# EAGLE library part 7-SEG_ (library display-kingbright_fix)
Kingbright 14.2mm (0.56 INCH) SINGLE DIGIT NUMERIC DUISPLAY Source: SA56-11EWA(Ver1189471036.pdf
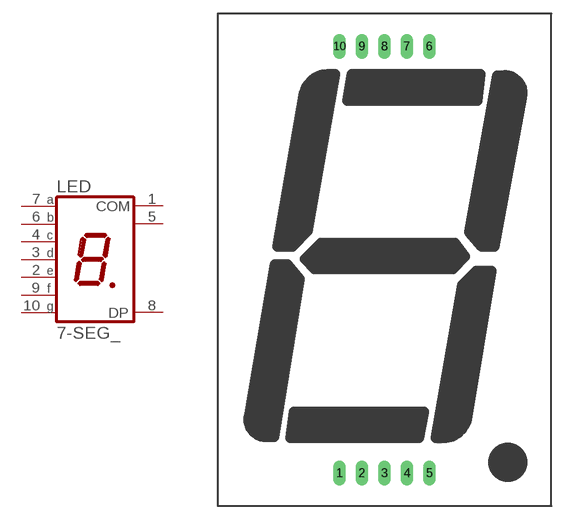
[diagram p0: symbol with the pads of SA18-11; footprint SA18-11]

Designator prefix LED

## 7-SEG_SA18-11 (OC_FARNELL: unknown; OC_NEWARK: unknown)  [SA18-11]
1  COM  pas
2  E  pas
3  D  pas
4  C  pas
5  COM  pas
6  B  pas
7  A  pas
8  DP  pas
9  F  pas
10  G  pas

## Footprint SA18-11 (pad centres in mm)
44.5mm (1.75INCH) SINGLE DIGIT NUMERIC DISPLAY Source: SA18-11EWA(Ver1189472866.5).pdf
drill 0.7 pad 1.422 long: 1 -5.08,-24.13; 2 -2.54,-24.13; 3 0,-24.13; 4 2.54,-24.13; 5 5.08,-24.13; 6 5.08,24.13; 7 2.54,24.13; 8 0,24.13; 9 -2.54,24.13; 10 -5.08,24.13